# Altium footprint library ECS-ECX-71-4_V.PcbLib: 1 footprints
Each footprint in its own frame and in the unit in brackets; x right, y up, seen from the top. Pads: shape width x height; smd on the part's side, far side on the other; paste and mask are expansions set on the pad; w line width, h text height; cw(c..) or ccw(c..) is an arc to the next point about the centre after c.
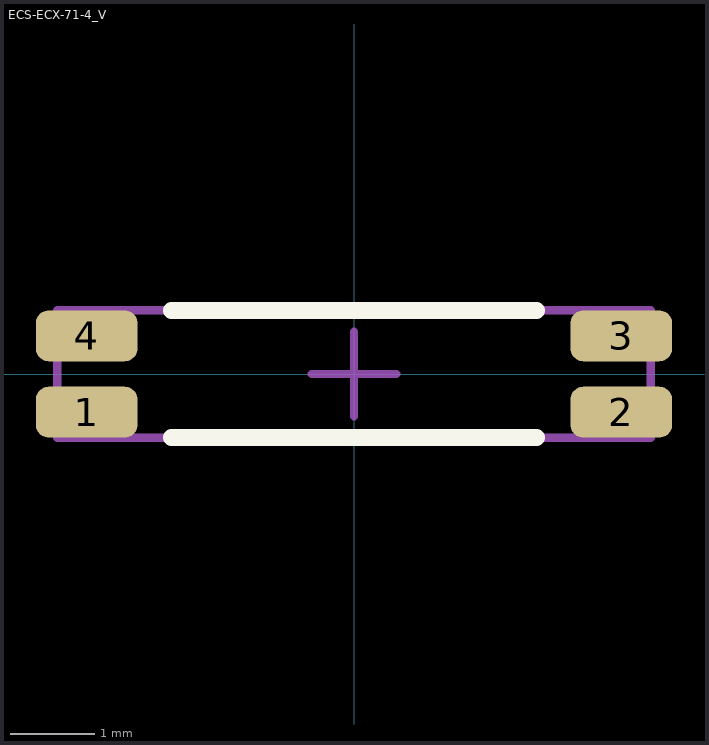
[diagram p0: the footprint, top view; thin cyan lines are the x and y axes]

## ECS-ECX-71-4_V [mm] "SMT Crystal, 4-Leads, Body 7x1.5mm (max)"
pads (4):
  rrect50% 1.2x0.6 smd: 1(-3.15,-0.45) 2(3.15,-0.45) 3(3.15,0.45) 4(-3.15,0.45)
Top Overlay:
  lines w0.2: -2.15,-0.75 2.15,-0.75 ; -2.15,0.75 2.15,0.75
Mechanical 13:
  lines w0.1: -3.5,-0.75 -3.5,0.75 3.5,0.75 3.5,-0.75 -3.5,-0.75
Mechanical 15:
  lines w0.1: -0.5,0 0.5,0 ; 0,-0.5 0,0.5
3D body: height 1.4, standoff 0, extent -3.556,-0.749 3.414,0.737
3D body: height 0.3, standoff 0, extent -3.589,0.389 -3.198,0.668
3D body: height 0.3, standoff 0, extent -3.574,-0.681 -3.183,-0.401
3D body: height 0.3, standoff 0, extent 3.162,0.389 3.553,0.668
3D body: height 0.3, standoff 0, extent 3.162,-0.676 3.553,-0.396
3D body: height 1.41, standoff 1.39, extent -2.76,-0.49 -1.701,0.511
3D body: height 1.41, standoff 1.39, extent 1.617,-0.465 2.676,0.536